# EAGLE library part CON-2X8 (library steves)
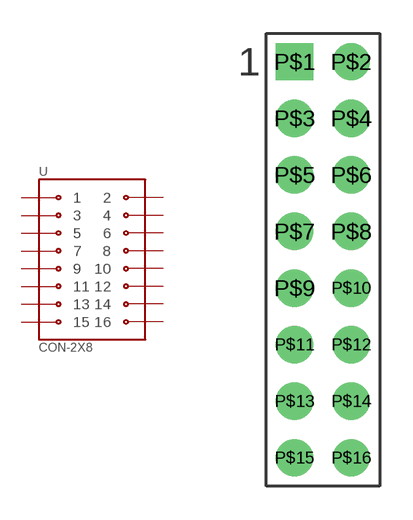
[diagram p33: symbol with the pads of CON-HDR-2X8; footprint CON-HDR-2X8]

Designator prefix -

## CON-2X8  [CON-HDR-2X8]
P$1  1  pas
P$2  2  pas
P$3  3  pas
P$4  4  pas
P$5  5  pas
P$6  6  pas
P$7  7  pas
P$8  8  pas
P$9  9  pas
P$10  10  pas
P$11  11  pas
P$12  12  pas
P$13  13  pas
P$14  14  pas
P$15  15  pas
P$16  16  pas

## Footprint CON-HDR-2X8 (pad centres in mm)
drill 0.9 pad 1.676 square: P$1 -1.27,8.89
drill 0.9 pad 1.676: P$2 1.27,8.89; P$3 -1.27,6.35; P$4 1.27,6.35; P$5 -1.27,3.81; P$6 1.27,3.81; P$7 -1.27,1.27; P$8 1.27,1.27; P$9 -1.27,-1.27; P$10 1.27,-1.27; P$11 -1.27,-3.81; P$12 1.27,-3.81; P$13 -1.27,-6.35; P$14 1.27,-6.35; P$15 -1.27,-8.89; P$16 1.27,-8.89